# EAGLE library part ARDUINO_R3_ICSP (library adafruit)
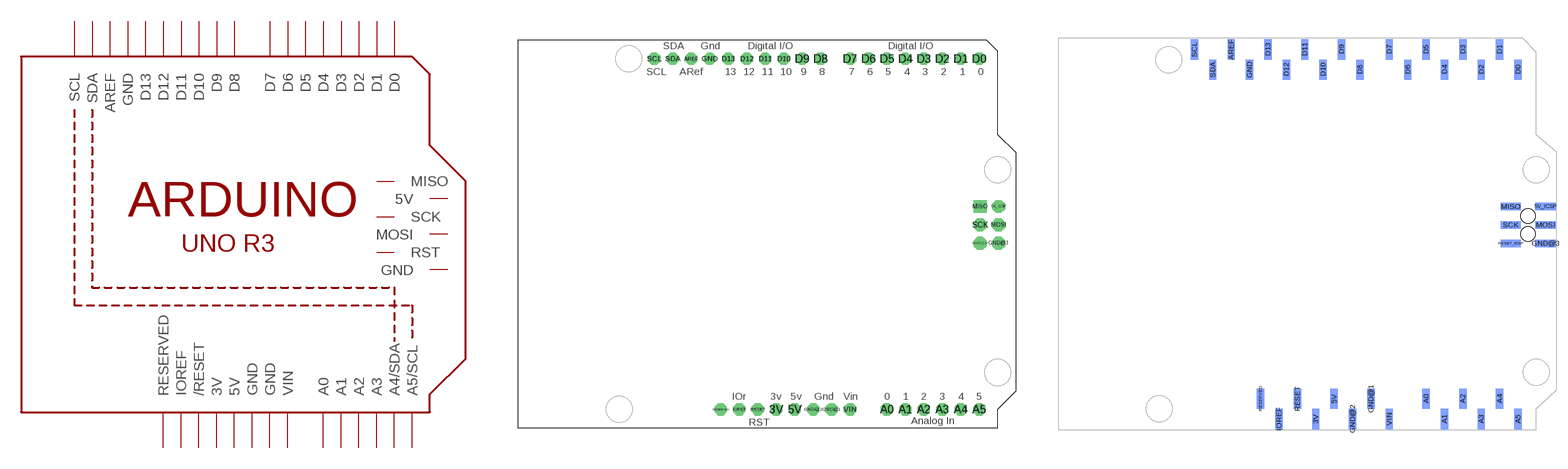
[diagram p111: symbol with the pads of ARDUINOR3_ICSP; footprints ARDUINOR3_ICSP, ARDUINOR3_ICSP_SMT]

Designator prefix M

## ARDUINO_R3_ICSP  [ARDUINOR3_ICSP]
3V  3V  pwr
5V  5V  pwr
5V_ICSP  5V  pas
A0  A0
A1  A1
A2  A2
A3  A3
A4  A4/SDA
A5  A5/SCL
AREF  AREF
D0  D0
D1  D1
D2  D2
D3  D3
D4  D4
D5  D5
D6  D6
D7  D7
D8  D8
D9  D9
D10  D10
D11  D11
D12  D12
D13  D13
GND  GND  pwr
GND@1  GND  pwr
GND@2  GND  pas
GND@3  GND  pwr
IOREF  IOREF  out
MISO  MISO  pas
MOSI  MOSI  pas
RESERVED  RESERVED  nc
RESET  /RESET
RESET_ICSP  RST  pas
SCK  SCK  pas
SCL  SCL
SDA  SDA
VIN  VIN  pwr

## ARDUINO_R3_ICSPSMT  [ARDUINOR3_ICSP_SMT]
3V  3V  pwr
5V  5V  pwr
5V_ICSP  5V  pas
A0  A0
A1  A1
A2  A2
A3  A3
A4  A4/SDA
A5  A5/SCL
AREF  AREF
D0  D0
D1  D1
D2  D2
D3  D3
D4  D4
D5  D5
D6  D6
D7  D7
D8  D8
D9  D9
D10  D10
D11  D11
D12  D12
D13  D13
GND  GND  pwr
GND@1  GND  pwr
GND@2  GND  pwr
GND@3  GND  pas
IOREF  IOREF  out
MISO  MISO  pas
MOSI  MOSI  pas
RESERVED  RESERVED  nc
RESET  /RESET
RESET_ICSP  RST  pas
SCK  SCK  pas
SCL  SCL
SDA  SDA
VIN  VIN  pwr

## ARDUINO_R3_ICSP_NODIM  [ARDUINOR3_ICSP_NODIM]
Pads as for ARDUINOR3_ICSP

## Footprint ARDUINOR3_ICSP (pad centres in mm)
drill 1 pad 1.676 octagon: 3V 35.56,2.54; 5V 38.1,2.54; A0 50.8,2.54; A1 53.34,2.54; A2 55.88,2.54; A3 58.42,2.54; A4 60.96,2.54; A5 63.5,2.54; AREF 23.876,50.8; D0 63.5,50.8; D1 60.96,50.8; D2 58.42,50.8; D3 55.88,50.8; D4 53.34,50.8; D5 50.8,50.8; D6 48.26,50.8; D7 45.72,50.8; D8 41.656,50.8; D9 39.116,50.8; D10 36.576,50.8; D11 34.036,50.8; D12 31.496,50.8; D13 28.956,50.8; GND 26.416,50.8; GND@1 43.18,2.54; GND@2 40.64,2.54; IOREF 30.48,2.54; RESERVED 27.94,2.54; RESET 33.02,2.54; SCL 18.796,50.8; SDA 21.336,50.8; VIN 45.72,2.54
drill 1 pad 1.778 octagon: 5V_ICSP 66.167,30.48; GND@3 66.167,25.4; MOSI 66.167,27.94; RESET_ICSP 63.627,25.4; SCK 63.627,27.94
drill 1 pad 1.778 square: MISO 63.627,30.48

## Footprint ARDUINOR3_ICSP_SMT (pad centres in mm)
smd 1.016 x 2.794 bottom: 3V 35.56,1.143; 5V 38.1,3.937; A0 50.8,3.937; A1 53.34,1.143; A2 55.88,3.937; A3 58.42,1.143; A4 60.96,3.937; A5 63.5,1.143; AREF 23.876,52.197; D0 63.5,49.403; D1 60.96,52.197; D2 58.42,49.403; D3 55.88,52.197; D4 53.34,49.403; D5 50.8,52.197; D6 48.26,49.403; D7 45.72,52.197; D8 41.656,49.403; D9 39.116,52.197; D10 36.576,49.403; D11 34.036,52.197; D12 31.496,49.403; D13 28.956,52.197; GND 26.416,49.403; GND@1 43.18,3.937; GND@2 40.64,1.143; IOREF 30.48,1.143; RESERVED 27.94,3.937; RESET 33.02,3.937; SCL 18.796,52.197; SDA 21.336,49.403; VIN 45.72,1.143
smd 2.794 x 1.016 bottom: 5V_ICSP 67.31,30.48; GND@3 67.31,25.4; MISO 62.484,30.48; MOSI 67.31,27.94; RESET_ICSP 62.484,25.4; SCK 62.484,27.94
hole 2 at 64.897,29.21
hole 2 at 64.897,26.67

## Footprint ARDUINOR3_ICSP_NODIM (pad centres in mm)
drill 1 pad 1.676 octagon: 3V -35.56,2.54; 5V -38.1,2.54; A0 -50.8,2.54; A1 -53.34,2.54; A2 -55.88,2.54; A3 -58.42,2.54; A4 -60.96,2.54; A5 -63.5,2.54; AREF -23.876,50.8; D0 -63.5,50.8; D1 -60.96,50.8; D2 -58.42,50.8; D3 -55.88,50.8; D4 -53.34,50.8; D5 -50.8,50.8; D6 -48.26,50.8; D7 -45.72,50.8; D8 -41.656,50.8; D9 -39.116,50.8; D10 -36.576,50.8; D11 -34.036,50.8; D12 -31.496,50.8; D13 -28.956,50.8; GND -26.416,50.8; GND@1 -43.18,2.54; GND@2 -40.64,2.54; IOREF -30.48,2.54; RESERVED -27.94,2.54; RESET -33.02,2.54; SCL -18.796,50.8; SDA -21.336,50.8; VIN -45.72,2.54
drill 1 pad 1.778 octagon: 5V_ICSP -66.167,30.48; GND@3 -66.167,25.4; MOSI -66.167,27.94; RESET_ICSP -63.627,25.4; SCK -63.627,27.94
drill 1 pad 1.778 square: MISO -63.627,30.48